# Altium footprint library Discrete_LED_Indication_SMD.PcbLib: 6 footprints
Each footprint in its own frame and in the unit in brackets; x right, y up, seen from the top. Pads: shape width x height; smd on the part's side, far side on the other; paste and mask are expansions set on the pad; w line width, h text height; cw(c..) or ccw(c..) is an arc to the next point about the centre after c.
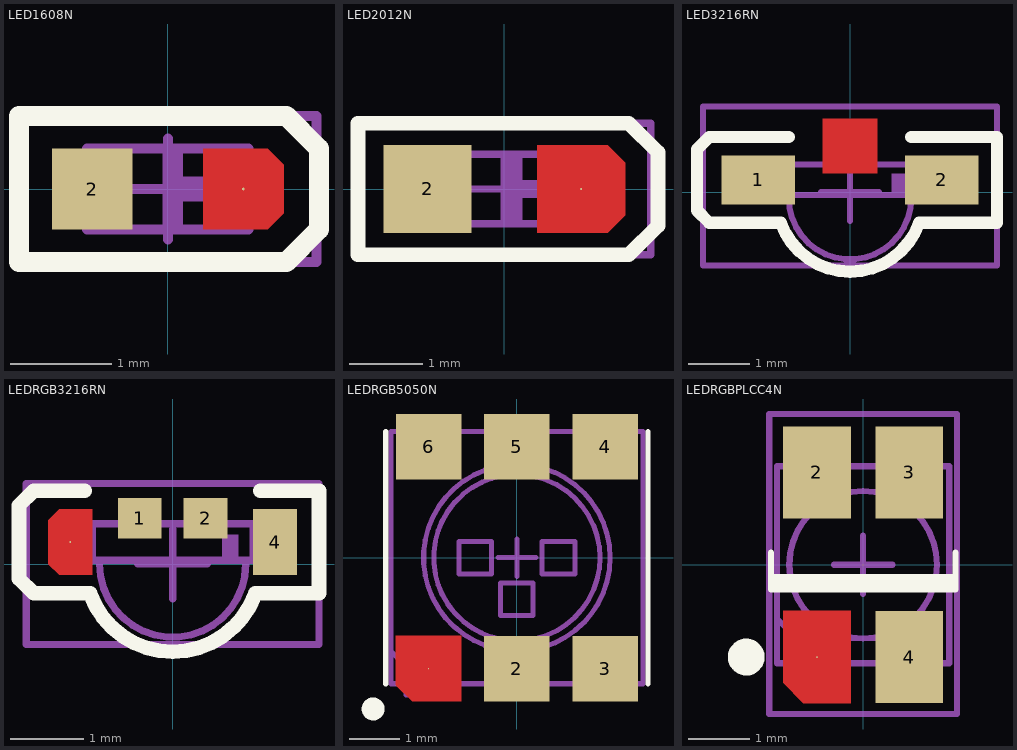
[diagram p0: the footprints below, top view; thin cyan lines are the x and y axes]

## LED1608N [mm]
height 0.9
pads (2):
  round 0.025 smd: 1(0.75,0)
  rect 0.8x0.8 smd: 2(-0.75,0)
Top Layer:
  region: 0.99,0.4 1.15,0.24 1.15,-0.24 0.99,-0.4 0.35,-0.4 0.35,0.4
Top Overlay:
  lines w0.2: -1.475,-0.725 1.175,-0.725 1.5,-0.4 1.5,0.4 1.175,0.725 -1.475,0.725 -1.475,-0.725
Top Package:
  region: 0.375,0.125 0.15,0.125 0.15,-0.125 0.375,-0.125
  region: 0.15,0.425 -0.05,0.425 -0.05,-0.425 0.15,-0.425
  lines w0.1: -0.525,-0.4 -0.525,0.4 ; 0.525,-0.4 0.525,0.4 ; -0.8,-0.4 -0.8,0.4 0.8,0.4 0.8,-0.4 -0.8,-0.4
Top Comment:
  text ".Comment" at -1.703,-0.376 h1.2
Top Designator:
  text ".Designator" at -2.581,-0.335 h1.5
Top Border:
  lines w0.1: -0.498,-0.001 0.502,-0.001 ; 0.002,-0.501 0.002,0.499 ; -1.475,-0.725 -1.475,0.725 1.475,0.725 1.475,-0.725 -1.475,-0.725
3D body "User Library-LED SMD0805.stp": height 0.85, standoff 0.01, extent -1.031,-0.45 1.031,0.456

## LED2012N [mm]
height 0.9
pads (2):
  round 0.025 smd: 1(1.05,0)
  rect 1.2x1.2 smd: 2(-1.05,0)
Top Layer:
  region: 1.65,-0.36 1.41,-0.6 0.45,-0.6 0.45,0.6 1.41,0.6 1.65,0.36
Top Overlay:
  lines w0.2: -2,-0.9 -2,0.9 1.7,0.9 2.1,0.5 2.1,-0.5 1.7,-0.9 -2,-0.9
Top Package:
  region: 0.475,0.125 0.25,0.125 0.25,-0.125 0.475,-0.125
  region: 0.25,0.45 0.05,0.45 0.05,-0.475 0.25,-0.475
  lines w0.1: -0.725,-0.475 -0.725,0.475 ; 0.675,-0.475 0.675,0.475 ; -1.15,-0.475 1.125,-0.475 1.125,0.475 -1.15,0.475 -1.15,-0.475
Top Comment:
  text ".Comment" at -1.703,-0.376 h1.2
Top Designator:
  text ".Designator" at -2.581,-0.335 h1.5
Top Border:
  lines w0.1: -0.475,0 0.475,0 ; 0,-0.475 0,0.475 ; -2,-0.9 2,-0.9 2,0.9 -2,0.9 -2,-0.9
3D body "LED2012.step": height 0.85, standoff 0.01, extent -1.031,-0.456 1.031,0.45

## LED3216RN [mm]
height 1.6
pads (2):
  rect 1.2x0.8 smd: 1(-1.5,0.2) 2(1.5,0.2)
Top Layer:
  rectangle: -0.45,0.3 0.45,1.2
Top Overlay:
  lines w0.2: -1.128,-0.51 ccw(c0,-0.1) 1.128,-0.51 ; -1.128,-0.5 -2.3,-0.5 -2.5,-0.3 -2.5,0.7 -2.3,0.9 -1,0.9 ; 1,0.9 2.4,0.9 2.4,-0.5 1.128,-0.5
Top Package:
  region: 0.9,0.3 0.675,0.3 0.675,-0.05 0.9,-0.05
  lines w0.1: -1.1,-0.05 -1.1,0.45 ; -1,-0.1 ccw(c0,-0.1) 1,-0.1 ; 1.1,-0.05 1.1,0.45 ; -1.6,-0.05 -1.6,0.45 1.6,0.45 1.6,-0.05 -1.6,-0.05
Top Comment:
  text ".Comment" at -1.703,-0.376 h1.2
Top Designator:
  text ".Designator" at -2.581,-0.335 h1.5
Top Border:
  lines w0.1: -0.475,0 0.475,0 ; 0,-0.475 0,0.475 ; -2.4,-1.2 -2.4,1.4 2.4,1.4 2.4,-1.2 -2.4,-1.2
3D body "LED 3216 RA Base.stp": height 1.01, standoff -0.01, extent -1.61,-0.11 1.61,0.45
3D body "LED 3216 RA Lense.stp": height 1, standoff 0, extent -1,-1 1,0

## LEDRGB3216RN [mm]
height 1.6
pads (4):
  rect 0.6x0.55 smd: 1(-0.45,0.625) 2(0.45,0.625)
  round 0.025 smd: 3(-1.4,0.3)
  rect 0.6x0.9 smd: 4(1.4,0.3)
Top Layer:
  region: -1.7,0 -1.55,-0.15 -1.1,-0.15 -1.1,0.75 -1.55,0.75 -1.7,0.6
Top Overlay:
  lines w0.2: -1.2,1 -1.9,1 -2.1,0.8 -2.1,-0.2 -1.9,-0.4 -1.128,-0.4 ; -1.128,-0.41 ccw(c0,0) 1.128,-0.41 ; 1.128,-0.4 2,-0.4 2,1 1.2,1
Top Package:
  region: 0.9,0.4 0.675,0.4 0.675,0.05 0.9,0.05
  lines w0.1: -1.1,0.05 -1.1,0.55 ; -1,0 ccw(c0,0) 1,0 ; 1.1,0.05 1.1,0.55 ; -1.6,0.05 1.6,0.05 1.6,0.55 -1.6,0.55 -1.6,0.05
Top Comment:
  text ".Comment" at -1.703,-0.376 h1.2
Top Designator:
  text ".Designator" at -2.581,-0.335 h1.5
Top Border:
  lines w0.1: -0.475,0 0.475,0 ; 0,-0.475 0,0.475 ; -2,-1.1 2,-1.1 2,1.1 -2,1.1 -2,-1.1
3D body "LED 3216 RA Lense.stp": height 1, standoff 0, extent -1,-0.9 1,0.1
3D body "LED 3216 RGB RA.stp": height 1.01, standoff -0.01, extent -1.61,-0.01 1.61,0.55

## LEDRGB5050N [mm]
height 1.6
pads (6):
  round 0.025 smd: 1(-1.75,-2.2)
  rect 1.3x1.3 smd: 2(0,-2.2) 3(1.75,-2.2) 4(1.75,2.2) 5(0,2.2) 6(-1.75,2.2)
Top Layer:
  region: -2.4,-2.525 -2.4,-1.55 -1.1,-1.55 -1.1,-2.85 -2.075,-2.85
Top Overlay:
  circle w0.254: c-2.85,-3 r0.1
  lines w0.1: -2.6,-2.5 -2.6,2.5 ; 2.6,-2.5 2.6,2.5
Top Package:
  circle w0.1: c0,0 r1.65
  circle w0.1: c0,0 r1.85
  lines w0.1: -2.475,-1.875 -1.85,-2.5 ; -2.2,-2.5 -2.2,-2.725 -1.3,-2.725 -1.3,-2.5 ; -2.2,2.5 -2.2,2.725 -1.3,2.725 -1.3,2.5 ; -0.45,2.5 -0.45,2.725 0.45,2.725 0.45,2.5 ; 1.3,-2.5 1.3,-2.725 2.2,-2.725 2.2,-2.5 ; 1.3,2.5 1.3,2.725 2.2,2.725 2.2,2.5 ; -0.45,-2.725 0.45,-2.725 ; -0.45,-2.725 -0.45,-2.5 -0.45,-2.725 ; -0.45,-2.725 0.45,-2.725 ; 0.45,-2.725 0.45,-2.5 0.45,-2.725 ; -2.5,-2.5 -2.5,2.5 2.5,2.5 2.5,-2.5 -2.5,-2.5 ; -1.15,-0.325 -0.5,-0.325 -0.5,0.325 -1.15,0.325 -1.15,-0.325 ; -0.325,-1.15 -0.325,-0.5 0.325,-0.5 0.325,-1.15 -0.325,-1.15 ; 0.5,-0.325 0.5,0.325 1.15,0.325 1.15,-0.325 0.5,-0.325
  text "B" at 1.025,-0.125 h0.4
  text "G" at 0.2,-0.975 h0.4
  text "R" at -0.625,-0.125 h0.4
Top Comment:
  text ".Comment" at -1.703,-0.376 h1.2
Top Designator:
  text ".Designator" at -2.581,-0.335 h1.5
Top Border:
  lines w0.1: -0.375,0 0.375,0 ; 0,-0.375 0,0.375 ; -2.5,-2.5 2.5,-2.5 2.5,2.5 -2.5,2.5 -2.5,-2.5
3D body "User Library-OF-SMD5060RGB.step": height 2, standoff 0, extent -2.5,-2.7 2.5,2.7

## LEDRGBPLCC4N [mm]
height 1.9
pads (4):
  round 0.025 smd: 1(-0.75,-1.5)
  rect 1.1x1.5 smd: 2(-0.75,1.5) 3(0.75,1.5) 4(0.75,-1.5)
Top Layer:
  region: -1.3,-1.92 -1.3,-0.75 -0.2,-0.75 -0.2,-2.25 -0.97,-2.25
Top Overlay:
  circle w0.3: c-1.9,-1.5 r0.15
  rectangle: -1.5,-0.4 1.5,-0.2
  lines w0.1: -1.5,-0.2 1.5,-0.2 ; -1.5,0.2 -1.5,-0.4 1.5,-0.4 1.5,0.2
Top Package:
  circle w0.1: c0,0 r1.2
  lines w0.1: -1.4,-0.875 -0.7,-1.575 ; -1.1,-1.625 -1.1,-1.775 -0.4,-1.775 -0.4,-1.625 ; -1.1,1.625 -1.1,1.775 -0.4,1.775 -0.4,1.625 ; 0.4,-1.625 0.4,-1.775 1.1,-1.775 1.1,-1.625 ; 0.4,1.625 0.4,1.775 1.1,1.775 1.1,1.625 ; -1.4,-1.6 1.4,-1.6 1.4,1.6 -1.4,1.6 -1.4,-1.6
Top Comment:
  text ".Comment" at -1.703,-0.376 h1.2
Top Designator:
  text ".Designator" at -2.581,-0.335 h1.5
Top Border:
  lines w0.1: -0.475,0 0.475,0 ; 0,-0.475 0,0.475 ; -1.525,-2.425 1.525,-2.425 1.525,2.45 -1.525,2.45 -1.525,-2.425
3D body "PLCC-4.step": height 1.9, standoff 0, extent -1.388,-1.75 1.412,1.75